# Altium schematic symbol library SCH - DRIVER - LED - TI LM2754SQ.SchLib: 1 symbol
Pins are listed as number, name and electrical type; pins without a type are passive.

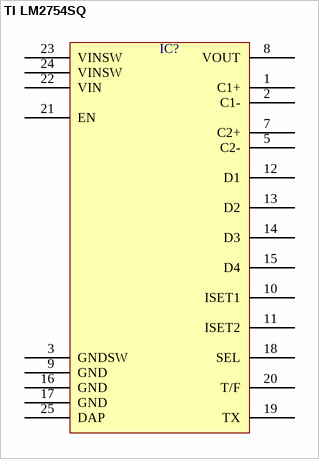
[diagram p0: symbol TI LM2754SQ]

## TI LM2754SQ
designator IC?  (value not drawn)
pins: 1 C1+, 2 C1-, 3 GNDSW, 5 C2-, 7 C2+, 8 VOUT, 9 GND, 10 ISET1, 11 ISET2, 12 D1, 13 D2, 14 D3, 15 D4, 16 GND, 17 GND, 18 SEL, 19 TX, 20 T/F, 21 EN, 22 VIN, 23 VINSW, 24 VINSW, 25 DAP